# Altium schematic symbol library BC3xx.SchLib: 2 symbols
Pins are listed as number, name and electrical type; pins without a type are passive.

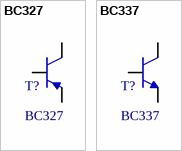
[diagram p0: symbols BC327 to BC337]

## BC327
designator T?
PNP Silicon Amplifier Transistors
footprint TO-92 BENT (BENT LEAD)
footprint TO-92 STRAIGHT (STRAIGHT LEAD)
pins: 1 C, 2 B, 3 E

## BC337
designator T?
NPN Silicon Amplifier Transistors
footprint TO-92 BENT (BENT LEAD)
footprint TO-92 STRAIGHT (STRAIGHT LEAD)
pins: 1 C, 2 B, 3 E